# Altium schematic symbol library ACSL-6210.SchLib: 1 symbol
Pins are listed as number, name and electrical type; pins without a type are passive.

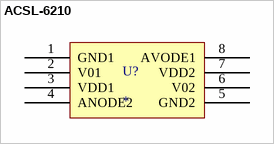
[diagram p0: symbol ACSL-6210]

## ACSL-6210
designator U?
footprint SOP127P636-8M (SOP, 8-Leads, Body 6x4.7mm, Pitch 1.27mm, IPC Low Density)
pins: 1 GND1 (power), 2 V01 (oc), 3 VDD1 (power), 4 ANODE2, 5 GND2 (power), 6 V02 (oc), 7 VDD2 (power), 8 AVODE1